# Altium schematic symbol library Common.SchLib: 89 symbols
Pins are listed as number, name and electrical type; pins without a type are passive.

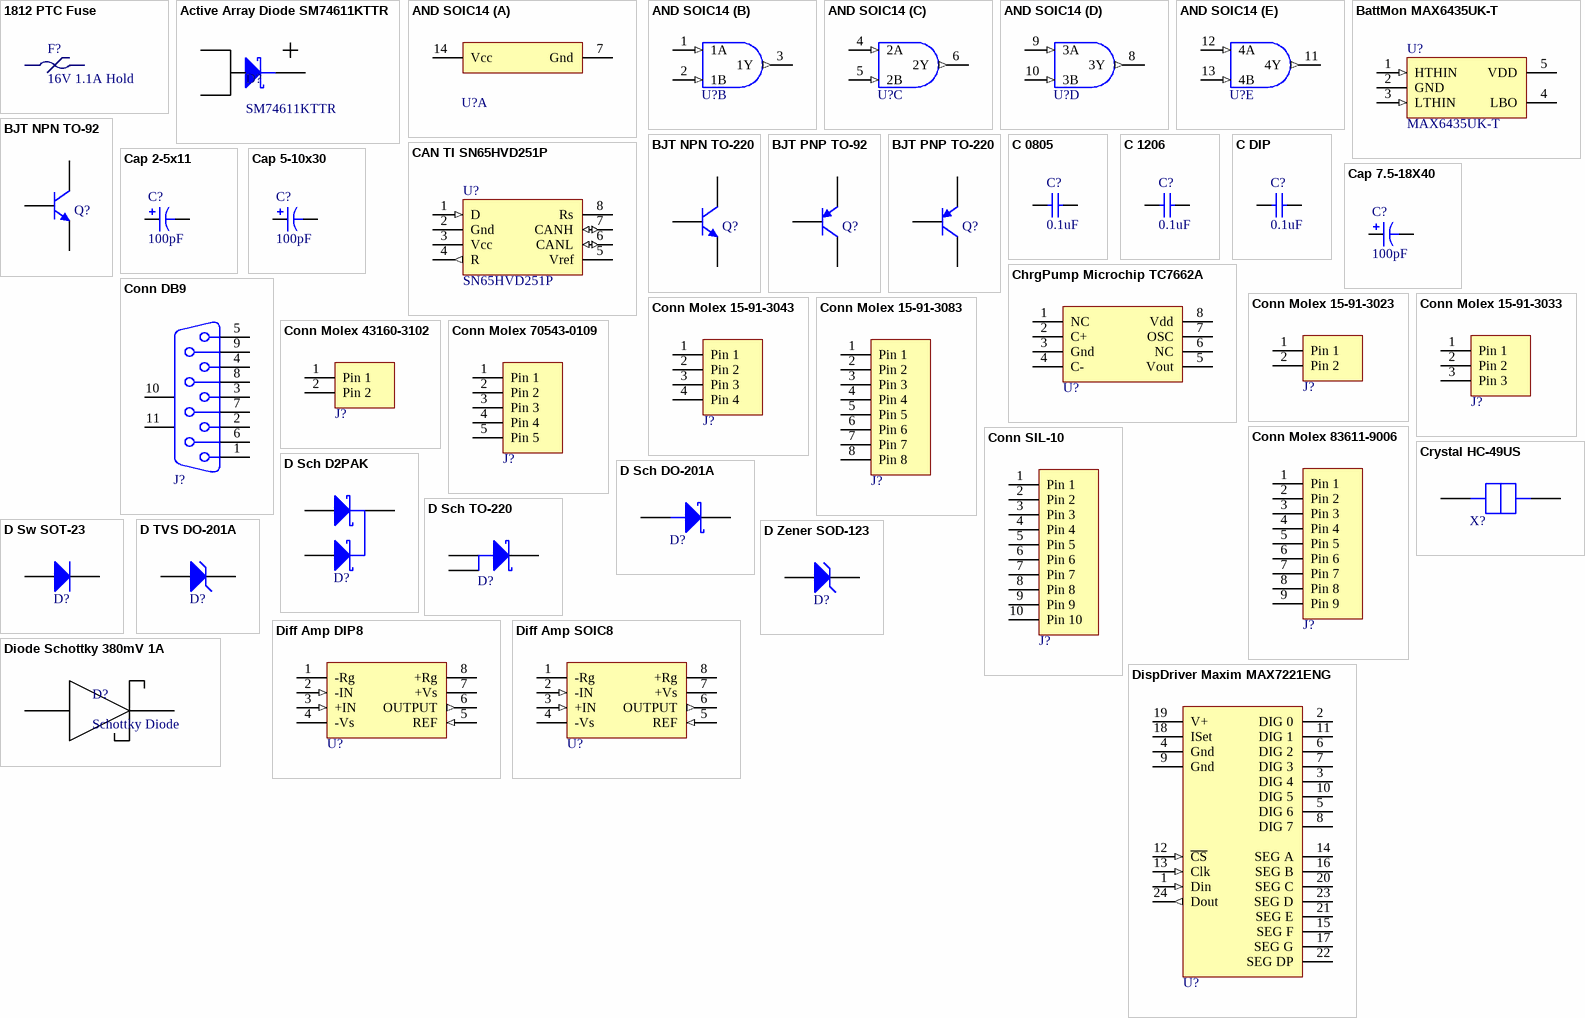
[diagram p0: symbols 1812 PTC Fuse to DispDriver Maxim MAX7221ENG]

## 1812 PTC Fuse
designator F?, comment 16V 1.1A Hold
1.1A Bel Fuse PTC Resettable; 0ZCC Series Fuse: 0ZCC0110AF2C; Characteristics: Hold: 1.1A Trip: 1.95; Source: http://www.digikey.com/product-detail/en/0ZCC0110AF2C/507-1500-2-ND/2165283
footprint 1812 PTC Fuse (1812 1.1A Hold, 1.95A Trip Bel Fuse)
pins: 1, 2

## Active Array Diode SM74611KTTR
designator D?, comment SM74611KTTR
Digikey: http://www.digikey.com/product-detail/en/SM74611KTTR/296-35688-1-ND/3911155; Datasheet: http://www.mouser.com/ds/2/405/sm74611-557060.pdf
footprint D2PAK
pins: 1 A1, 2 K, 3 A2

## AND SOIC14
designator U?  (value not drawn)
AND, Gen, Quad, SOIC14
footprint SO-G14
part A pins: 7 Gnd (power), 14 Vcc (power)
part B pins: 1 1A (in), 2 1B (in), 3 1Y (out)
part C pins: 4 2A (in), 5 2B (in), 6 2Y (out)
part D pins: 8 3Y (out), 9 3A (in), 10 3B (in)
part E pins: 11 4Y (out), 12 4A (in), 13 4B (in)

## BattMon MAX6435UK-T
designator U?, comment MAX6435UK-T
BattMon, Maxim, MAX6435UK-T
footprint SOT-23-5
pins: 1 HTHIN (in), 2 GND (power), 3 LTHIN (in), 4 LBO (oc), 5 VDD (power)

## BJT NPN TO-92
designator Q?
BJT, Gen, NPN, TO-92; Published: 8-Jun-2000; LatestRevisionDate: 17-Jul-2002; LatestRevisionNote: Re-released for DXP Platform.; Publisher: Altium Limited; Code_JEDEC: TO-226-AA
footprint TO-92
pins: 1 E, 2 B, 3 C

## BJT NPN TO-220
designator Q?
BJT, Gen, NPN, TO-220; Published: 8-Jun-2000; LatestRevisionDate: 17-Jul-2002; LatestRevisionNote: Re-released for DXP Platform.; Publisher: Altium Limited; Code_JEDEC: TO-226-AA
footprint TO-220
pins: 1 B, 2 C, 3 E

## BJT PNP TO-92
designator Q?
BJT, Gen, PNP, TO-92; Published: 8-Jun-2000; LatestRevisionDate: 17-Jul-2002; LatestRevisionNote: Re-released for DXP Platform.; Publisher: Altium Limited; Code_JEDEC: SOT-23
footprint TO-92
pins: 1 E, 2 B, 3 C

## BJT PNP TO-220
designator Q?
BJT, Gen, PNP, TO-220; Published: 8-Jun-2000; LatestRevisionDate: 17-Jul-2002; LatestRevisionNote: Re-released for DXP Platform.; Publisher: Altium Limited; Code_JEDEC: SOT-23
footprint TO-220
pins: 1 E, 2 B, 3 C

## C 0805
designator C?  value 0.1uF
C, Gen, 0805; Published: 8-Jun-2000; LatestRevisionDate: 17-Jul-2002; LatestRevisionNote: Re-released for DXP Platform.; Publisher: Altium Limited
simulation model CAP (Capacitor)
footprint CR2012-0805
pins: 1, 2

## C 1206
designator C?  value 0.1uF
C, Gen, 1206; Published: 8-Jun-2000; LatestRevisionDate: 17-Jul-2002; LatestRevisionNote: Re-released for DXP Platform.; Publisher: Altium Limited
simulation model CAP (Capacitor)
footprint CR3216-1206
pins: 1, 2

## C DIP
designator C?  value 0.1uF
C, Gen, DIP; Published: 8-Jun-2000; LatestRevisionDate: 17-Jul-2002; LatestRevisionNote: Re-released for DXP Platform.; Publisher: Altium Limited
simulation model CAP (Capacitor)
footprint CAPR2.54-5.1X2.5
pins: 1, 2

## CAN TI SN65HVD251P
designator U?, comment SN65HVD251P
CAN, TI, SN65HVD251, DIP8
footprint DIP-8
pins: 1 D (in), 2 Gnd (power), 3 Vcc (power), 4 R (out), 5 Vref (power), 6 CANL (io), 7 CANH (io), 8 Rs

## Cap 2-5x11
designator C?  value 100pF
Cap, Gen, 2-5x11; Published: 8-Jun-2000; LatestRevisionDate: 17-Jul-2002; LatestRevisionNote: Re-released for DXP Platform.; Publisher: Altium Limited
simulation model CAP (Capacitor)
footprint CAPPR2-5X11
pins: 1, 2
1 alternate drawing of the same symbol

## Cap 5-10x30
designator C?  value 100pF
Cap, Gen, 5-10x30; Published: 8-Jun-2000; LatestRevisionDate: 17-Jul-2002; LatestRevisionNote: Re-released for DXP Platform.; Publisher: Altium Limited
simulation model CAP (Capacitor)
footprint CAPPR5-10X30
pins: 1, 2
1 alternate drawing of the same symbol

## Cap 7.5-18X40
designator C?  value 100pF
Cap, Gen, 7.5-18X40; Published: 8-Jun-2000; LatestRevisionDate: 17-Jul-2002; LatestRevisionNote: Re-released for DXP Platform.; Publisher: Altium Limited
simulation model CAP (Capacitor)
footprint CAPPR7.5-18X40
pins: 1, 2
1 alternate drawing of the same symbol

## ChrgPump Microchip TC7662A
designator U?
Charge Pump, Microchip, TC7662A, SOIC8
footprint SO-G8
pins: 1 NC, 2 C+, 3 Gnd (power), 4 C-, 5 Vout (power), 6 NC, 7 OSC, 8 Vdd (power)

## Conn DB9
designator J?  (value not drawn)
Conn, Gen, DB9, 9 Circuit, Thru-hole
footprint DSUB1.385-2H9
pins: 1, 2, 3, 4, 5, 6, 7, 8, 9, 10 MH1, 11 MH2

## Conn Molex 15-91-3023
designator J?  (value not drawn)
Conn, Molex 15-91-3023, 2 Circuit, SMD
footprint 15-91-3023
pins: 1 Pin 1, 2 Pin 2

## Conn Molex 15-91-3033
designator J?  (value not drawn)
Conn, Molex 15-91-3033, 3 Circuit, SMD
footprint 15-91-3033
pins: 1 Pin 1, 2 Pin 2, 3 Pin 3

## Conn Molex 15-91-3043
designator J?  (value not drawn)
Conn, Molex 15-91-3043, 4 Circuit, SMD
footprint 15-91-3043
pins: 1 Pin 1, 2 Pin 2, 3 Pin 3, 4 Pin 4

## Conn Molex 15-91-3083
designator J?  (value not drawn)
Conn, Molex 15-91-3083, 8 Circuit, SMD
footprint 15-91-3083
pins: 1 Pin 1, 2 Pin 2, 3 Pin 3, 4 Pin 4, 5 Pin 5, 6 Pin 6, 7 Pin 7, 8 Pin 8

## Conn Molex 43160-3102
designator J?  (value not drawn)
Conn, Molex, 43160-3102, 2 Circuit, Thru Hole
footprint 43160-3102
pins: 1 Pin 1 (power), 2 Pin 2 (power)

## Conn Molex 70543-0109
designator J?  (value not drawn)
Conn, Molex, 70543-0109, 5 Circuit, Thru Hole
footprint 70543-0109
pins: 1 Pin 1, 2 Pin 2, 3 Pin 3, 4 Pin 4, 5 Pin 5

## Conn Molex 83611-9006
designator J?  (value not drawn)
Conn, Molex 83611-9006, 9 Circuit, Comm Micro D-Sub
footprint 83611-9006 (Molex Commercial D-Sub 9 Pin)
pins: 1 Pin 1, 2 Pin 2, 3 Pin 3, 4 Pin 4, 5 Pin 5, 6 Pin 6, 7 Pin 7, 8 Pin 8, 9 Pin 9

## Conn SIL-10
designator J?  (value not drawn)
Conn, Gen, SIL-10, 10 Circuit, Thru-Hole
footprint SIL-10
pins: 1 Pin 1, 2 Pin 2, 3 Pin 3, 4 Pin 4, 5 Pin 5, 6 Pin 6, 7 Pin 7, 8 Pin 8, 9 Pin 9, 10 Pin 10

## Crystal HC-49US
designator X?  (value not drawn)
Crystal, Gen, HC-49US
footprint HC-49US
pins: 1, 2

## D Sch D2PAK
designator D?
D, Gen, Schottky, D2PAK; Note: Terminal 2 is the TAB and is electrically connected to the cathode; Published: 8-Jun-2000; LatestRevisionDate: 17-Jul-2002; LatestRevisionNote: Re-released for DXP Platform.; DatasheetDocument: PD-2.057B; PackageDocument: Feb-1998; PackageReference: TO-220AC; Publisher: Altium Limited
footprint D2PAK
pins: 1 A1, 2 K, 3 A2

## D Sch DO-201A
designator D?
D, Gen, Schottky, DO-201A; Note: Terminal 2 is the TAB and is electrically connected to the cathode; Published: 8-Jun-2000; LatestRevisionDate: 17-Jul-2002; LatestRevisionNote: Re-released for DXP Platform.; DatasheetDocument: PD-2.057B; PackageDocument: Feb-1998; PackageReference: TO-220AC; Publisher: Altium Limited
footprint DIO14.5-9.5x5.3
pins: 1 A, 2 K

## D Sch TO-220
designator D?
D, Gen, Schottky, TO-220; Note: Terminal 2 is the TAB and is electrically connected to the cathode; Published: 8-Jun-2000; LatestRevisionDate: 17-Jul-2002; LatestRevisionNote: Re-released for DXP Platform.; DatasheetDocument: PD-2.057B; PackageDocument: Feb-1998; PackageReference: TO-220AC; Publisher: Altium Limited
footprint TO-220
pins: 1 A1, 2 K, 3 A2

## D Sw SOT-23
designator D?
D, Gen, Switching, SOT-23; Note: Pin 2 is not connected and not drawn.; Published: 21-Mar-2003; DatasheetDocument: Oct-1999; PackageDocument: Sep-2001; PackageReference: SOT-23; Publisher: Altium Limited
footprint SOT-23
pins: 1 A, 3 K

## D TVS DO-201A
designator D?
D, Gen, TVS, DO-201A; Published: 8-Jun-2000; LatestRevisionDate: 17-Jul-2002; LatestRevisionNote: Re-released for DXP Platform.; Publisher: Altium Limited
footprint DIO14.5-9.5x5.3
pins: 1 A, 2 K

## D Zener SOD-123
designator D?
D, Gen, Zener, SOD-123; Published: 8-Jun-2000; LatestRevisionDate: 17-Jul-2002; LatestRevisionNote: Re-released for DXP Platform.; Publisher: Altium Limited
footprint SOD123
pins: 1 A, 2 K

## Diff Amp DIP8
designator U?
Diff Amp, Gen, Single, DIP8
footprint DIP-8
pins: 1 -Rg, 2 -IN (in), 3 +IN (in), 4 -Vs (power), 5 REF (in), 6 OUTPUT (out), 7 +Vs (power), 8 +Rg

## Diff Amp SOIC8
designator U?
Diff Amp, Gen, Single, SOIC8
footprint SO-G8
pins: 1 -Rg, 2 -IN (in), 3 +IN (in), 4 -Vs (power), 5 REF (in), 6 OUTPUT (out), 7 +Vs (power), 8 +Rg

## Diode Schottky 380mV 1A
designator D?, comment Schottky Diode
Supplier 1: Digi-Key; Supplier Part Number 1: MBR130LSFT1GOSTR-ND
footprint SOD-123F
pins: 1, 2

## DispDriver Maxim MAX7221ENG
designator U?  (value not drawn)
DispDriver, Maxim, MAX7221, DIP24
footprint DIP-24
pins: 1 Din (in), 2 DIG 0 (power), 3 DIG 4 (power), 4 Gnd (power), 5 DIG 6 (power), 6 DIG 2 (power), 7 DIG 3 (power), 8 DIG 7 (power), 9 Gnd (oe), 10 DIG 5 (power), 11 DIG 1 (power), 12 ~{CS} (in), 13 Clk (in), 14 SEG A (power), 15 SEG F (power), 16 SEG B (power), 17 SEG G (power), 18 ISet, 19 V+ (power), 20 SEG C (power), 21 SEG E (power), 22 SEG DP (power), 23 SEG D (power), 24 Dout (out)

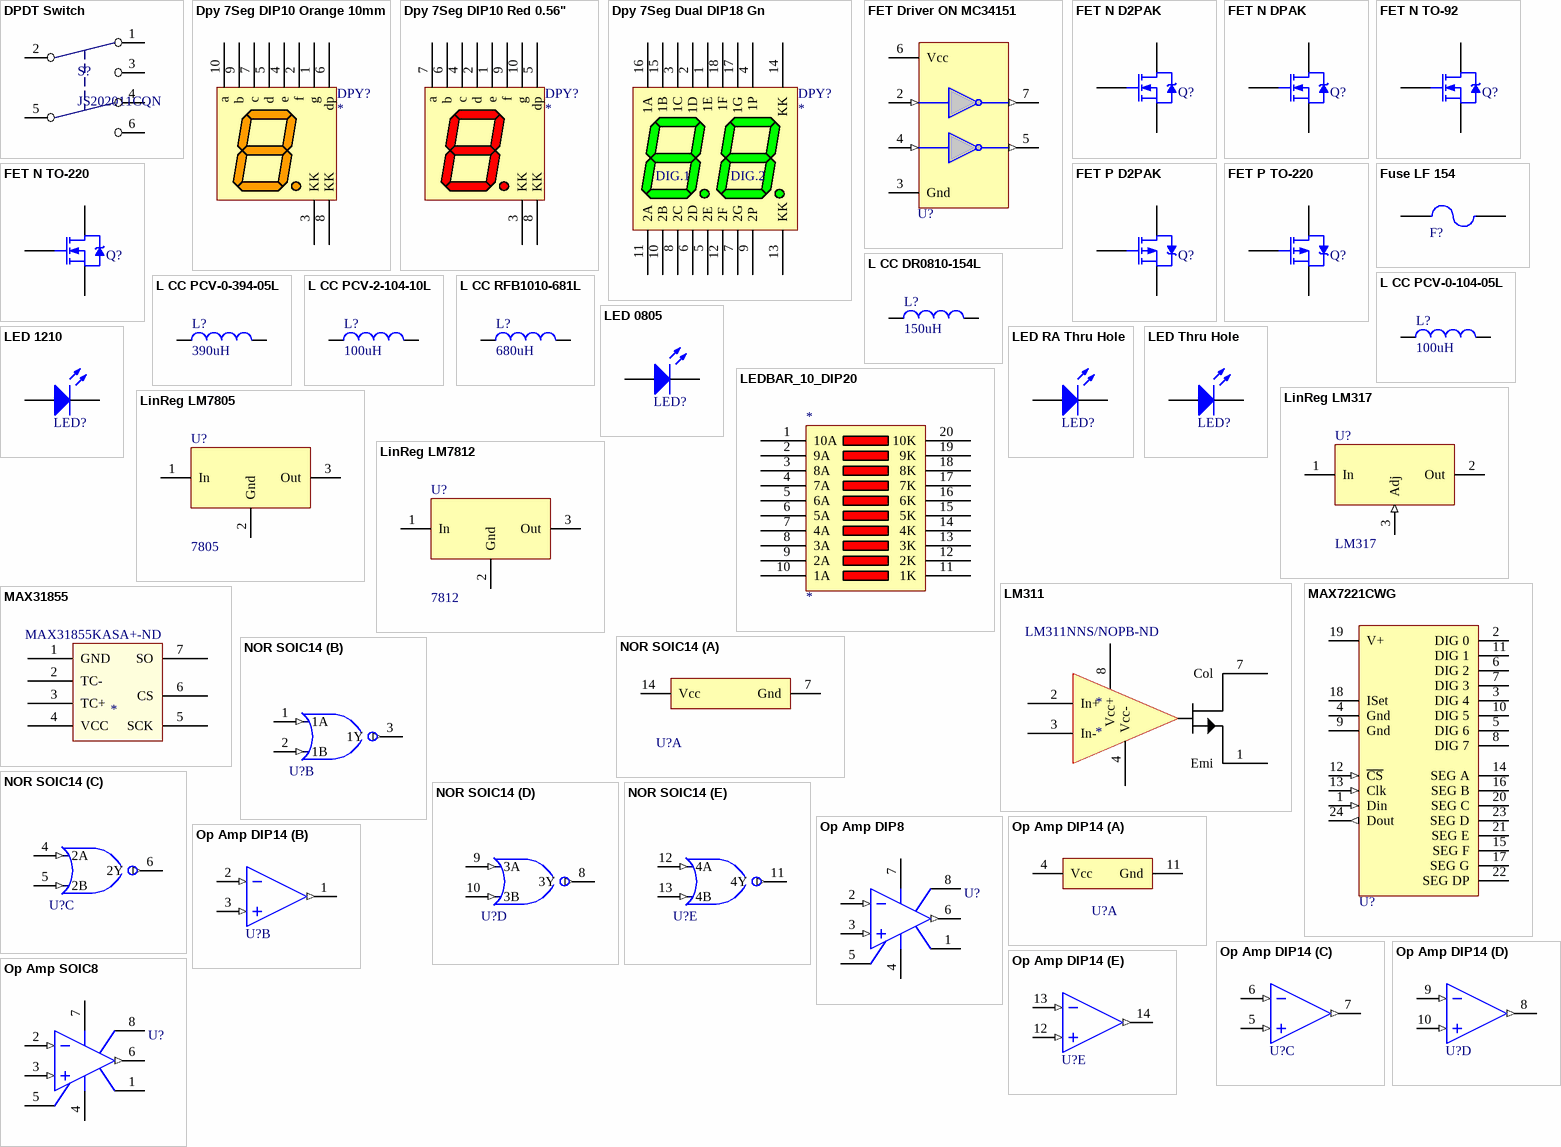
[diagram p1: symbols DPDT Switch to Op Amp SOIC8]

## DPDT Switch
designator S?, comment JS202011CQN
DPDT Slide Switch 6VDC 0.3A; Manufacturer: C&K Components; Switch Function: On-On; Contact Rating @ Voltage: 0.3A @ 6VDC; Actuator Type: Standard; Supplier 1: Digi-Key; Manufacturer Part Number: JS202011CQN; RoHS: RoHS Compliant; Category: Switches; Stock 1: 4366; Pricing 1: 1=0.39, 10=0.377, 50=0.3298, 100=0.314, 250=0.30616, 500=0.25906, 1000=0.2512, 5000=0.2198 (USD); Circuit: DPDT; Mounting Type: Through Hole; Orientation: Vertical; Termination Style: PC Pin; ComponentLink1URL: http://www.ck-components.com/index.php?module=media&action=Display&cmpref=14398&lang=en&width=&height=&format=&alt=; ComponentLink1Description: http://www.ck-components.com/index.php?module=media&action=Display&cmpref=14398&lang=en&width=&height=&format=&alt=; Supplier Part Number 1: 401-2001-ND
footprint JS202011CQN (DPDT Slide Switch 6VDC 0.3A)
pins: 1 30, 2 29, 3 28, 4 27, 5 32, 6 31

## Dpy 7Seg DIP10 Orange 10mm
designator DPY?
7-segment LED display, DIP10, orange, 10mm digit height (LTS-4103J*)
footprint LEDDIP-10/C5.08 - LTS-4301J*
pins: 1 g, 2 f, 3 KK, 4 e, 5 d, 6 dp, 7 c, 8 KK, 9 b, 10 a

## Dpy 7Seg DIP10 Red 0.56"
designator DPY?
7-segment LED display, DIP10, red, 0.56" digit height (LSHD-5503)
footprint LEDDIP-10/C15.24 - LSHD-5503
pins: 1 e, 2 d, 3 KK, 4 c, 5 dp, 6 b, 7 a, 8 KK, 9 f, 10 g

## Dpy 7Seg Dual DIP18 Gn
designator DPY?
7-segment dual LED display, DIP18, 22mm pitch, green (LDD-C812RI)
footprint LEDDIP-18 - LDD-C812RI
pins: 1 1E, 2 1D, 3 1C, 4 1P, 5 2E, 6 2D, 7 2G, 8 2C, 9 2P, 10 2B, 11 2A, 12 2F, 13 KK, 14 KK, 15 1B, 16 1A, 17 1G, 18 1F
text: DIG.1; DIG.2

## FET Driver ON MC34151
designator U?
FET Driver, ON Semi, MC34151, SOIC8
footprint SO-G8
pins: 2 A1 (in), 3 Gnd (power), 4 A2 (in), 5 B2 (out), 6 Vcc (power), 7 B1 (out)

## FET N D2PAK
designator Q?
FET, Gen, N-Channel, D2PAK; Note: Pin 2 is electrically connected to pin 4.; Published: 8-Jun-2000; LatestRevisionDate: 17-Jul-2002; LatestRevisionNote: Re-released for DXP Platform.; DatasheetDocument: PD-9.814; PackageReference: TO-220AB; Publisher: Altium Limited; Code_JEDEC: TO-220-AB
footprint D2PAK
pins: 1 G, 2 D, 3 S

## FET N DPAK
designator Q?
MTD6N20E N-channel FET, 6A; Note: Pin 2 is electrically connected to pin 4.; Published: 8-Jun-2000; LatestRevisionDate: 17-Jul-2002; LatestRevisionNote: Re-released for DXP Platform.; DatasheetDocument: PD-9.814; PackageReference: TO-220AB; Publisher: Altium Limited; Code_JEDEC: TO-220-AB
footprint DPAK-369C-01 (For MTD6N20E N-Channel FET)
pins: 1 G, 2 D, 3 S

## FET N TO-92
designator Q?
FET, Gen, N-Channel, TO-92; Note: Pin 2 is electrically connected to pin 4.; Published: 8-Jun-2000; LatestRevisionDate: 17-Jul-2002; LatestRevisionNote: Re-released for DXP Platform.; DatasheetDocument: PD-9.814; PackageReference: TO-220AB; Publisher: Altium Limited; Code_JEDEC: TO-220-AB
footprint TO-92
pins: 1 D, 2 G, 3 S

## FET N TO-220
designator Q?
FET, Gen, N-Channel, TO-220; Note: Pin 2 is electrically connected to pin 4.; Published: 8-Jun-2000; LatestRevisionDate: 17-Jul-2002; LatestRevisionNote: Re-released for DXP Platform.; DatasheetDocument: PD-9.814; PackageReference: TO-220AB; Publisher: Altium Limited; Code_JEDEC: TO-220-AB
footprint TO-220
pins: 1 G, 2 D, 3 S

## FET P D2PAK
designator Q?
FET, Gen, P-Channel, D2PAK; Note: Pin 4 not drawn and electrically connected to Pin 2.; Published: 8-Jun-2000; LatestRevisionDate: 17-Jul-2002; LatestRevisionNote: Re-released for DXP Platform.; DatasheetDocument: PD-9.390D; PackageReference: TO-220AB; Publisher: Altium Limited; Code_JEDEC: TO-220-AB
footprint D2PAK
pins: 1 G, 2 D, 3 S

## FET P TO-220
designator Q?
FET, Gen, P-Channel, TO-220; Note: Pin 4 not drawn and electrically connected to Pin 2.; Published: 8-Jun-2000; LatestRevisionDate: 17-Jul-2002; LatestRevisionNote: Re-released for DXP Platform.; DatasheetDocument: PD-9.390D; PackageReference: TO-220AB; Publisher: Altium Limited; Code_JEDEC: TO-220-AB
footprint TO-220
pins: 1 G, 2 D, 3 S

## Fuse LF 154
designator F?
Fuse, Littelfuse, 154 Series; Published: 8-Jun-2000; LatestRevisionDate: 17-Jul-2002; LatestRevisionNote: Re-released for DXP Platform.; Publisher: Altium Limited
footprint LITTELFUSE OMNIBLOCK
pins: 1, 2

## L CC DR0810-154L
designator L?  value 150uH
L, Coilcraft, DR0810-154L, 150uH, 1.1A; Code_IEC: 1005; Published: 8-Jun-2000; LatestRevisionDate: 17-Jul-2002; LatestRevisionNote: Re-released for DXP Platform.; PackageReference: 0402-A; Publisher: Altium Limited; Code_JEITA: 0402
simulation model INDUCTOR (Inductor)
footprint INDR5-10.5x12
pins: 1, 2

## L CC PCV-0-104-05L
designator L?  value 100uH
L, Coilcraft, PCV-0-104-05L, 100uH, 5A; Code_IEC: 1005; Published: 8-Jun-2000; LatestRevisionDate: 17-Jul-2002; LatestRevisionNote: Re-released for DXP Platform.; PackageReference: 0402-A; Publisher: Altium Limited; Code_JEITA: 0402
simulation model INDUCTOR (Inductor)
footprint INDR17.8-16.5x33
pins: 1, 2

## L CC PCV-0-394-05L
designator L?  value 390uH
L, Coilcraft, PCV-0-394-05L, 390uH, 5A; Code_IEC: 1005; Published: 8-Jun-2000; LatestRevisionDate: 17-Jul-2002; LatestRevisionNote: Re-released for DXP Platform.; PackageReference: 0402-A; Publisher: Altium Limited; Code_JEITA: 0402
simulation model INDUCTOR (Inductor)
footprint INDR18.3-28x25.4
pins: 1, 2

## L CC PCV-2-104-10L
designator L?  value 100uH
L, Coilcraft, PCV-2-104-10L, 100uH, 10.1A; Code_IEC: 1005; Published: 8-Jun-2000; LatestRevisionDate: 17-Jul-2002; LatestRevisionNote: Re-released for DXP Platform.; PackageReference: 0402-A; Publisher: Altium Limited; Code_JEITA: 0402
simulation model INDUCTOR (Inductor)
footprint INDR22.35-26.67X27.94
pins: 1, 2

## L CC RFB1010-681L
designator L?  value 680uH
L, Coilcraft, RFB1010-681L, 680uH, 0.75A; Code_IEC: 1005; Published: 8-Jun-2000; LatestRevisionDate: 17-Jul-2002; LatestRevisionNote: Re-released for DXP Platform.; PackageReference: 0402-A; Publisher: Altium Limited; Code_JEITA: 0402
simulation model INDUCTOR (Inductor)
footprint INDR6-11x11.5
pins: 1, 2

## LED 0805
designator LED?  (value not drawn)
LED, Surface mount, 0805
footprint CC2012-0805
pins: A, K

## LED 1210
designator LED?  (value not drawn)
LED, Surface mount, 1210
footprint CC2012-1210
pins: A, K

## LED RA Thru Hole
designator LED?  (value not drawn)
LED, Gen, RA, Thru Hole
footprint LEDRA2.54-14x6
pins: 1 A, 2 K

## LED Thru Hole
designator LED?  (value not drawn)
LED, Thru Hole, Upright Mount
footprint LED_UP_T1.75 (LED - T 1-3/4 (5mm) - Upright Mount)
footprint LED_UP_T1 (LED, Upright Mount, T1 (3mm))
pins: 1 A, 2 K

## LEDBAR_10_DIP20
designator *
footprint LEDDIP20 (DIP-20 with silkscreen for DIP20-based bargraph LED)
pins: 1 10A, 2 9A, 3 8A, 4 7A, 5 6A, 6 5A, 7 4A, 8 3A, 9 2A, 10 1A, 11 1K, 12 2K, 13 3K, 14 4K, 15 5K, 16 6K, 17 7K, 18 8K, 19 9K, 20 10K

## LinReg LM317
designator U?, comment LM317
LinReg, LM317, TO-220
footprint TO-220
pins: 1 In (power), 2 Out (power), 3 Adj (in)

## LinReg LM7805
designator U?, comment 7805
LinReg, LM7805, TO-220
footprint TO-220
pins: 1 In (power), 2 Gnd (power), 3 Out (power)

## LinReg LM7812
designator U?, comment 7812
LinReg, LM7812, TO-220
footprint TO-220
pins: 1 In (power), 2 Gnd (power), 3 Out (power)

## LM311
designator *  Supplier Part Number 1: LM311NNS/NOPB-ND
Supplier 1: Digi-Key
footprint DIP-8
pins: 1 Emi, 2 In+, 3 In-, 4 Vcc-, 7 Col, 8 Vcc+

## MAX7221CWG
designator U?  (value not drawn)
DispDriver, Maxim, MAX7221, WSOIC24
footprint SO-G24/D15.6
pins: 1 Din (in), 2 DIG 0 (power), 3 DIG 4 (power), 4 Gnd (power), 5 DIG 6 (power), 6 DIG 2 (power), 7 DIG 3 (power), 8 DIG 7 (power), 9 Gnd (oe), 10 DIG 5 (power), 11 DIG 1 (power), 12 ~{CS} (in), 13 Clk (in), 14 SEG A (power), 15 SEG F (power), 16 SEG B (power), 17 SEG G (power), 18 ISet, 19 V+ (power), 20 SEG C (power), 21 SEG E (power), 22 SEG DP (power), 23 SEG D (power), 24 Dout (out)

## MAX31855
designator ?  Supplier Part Number 1: MAX31855KASA+-ND
Thermocouple Reader, SPI; Supplier 1: Digi-Key
footprint SO-G8
pins: 1 GND, 2 TC-, 3 TC+, 4 VCC, 5 SCK, 6 CS, 7 SO

## NOR SOIC14
designator U?  (value not drawn)
NOR, Gen, Quad, SOIC14
footprint SO-G14
part A pins: 7 Gnd (power), 14 Vcc (power)
part B pins: 1 1A (in), 2 1B (in), 3 1Y (out)
part C pins: 4 2A (in), 5 2B (in), 6 2Y (out)
part D pins: 8 3Y (out), 9 3A (in), 10 3B (in)
part E pins: 11 4Y (out), 12 4A (in), 13 4B (in)

## Op Amp DIP8
designator U?
Op Amp, Gen, Single, DIP8
footprint DIP-8
pins: 1 OS NUL, 2 IN- (in), 3 IN+ (in), 4 V- (power), 5 OS NUL, 6 OUT (out), 7 V+ (power), 8 TAB

## Op Amp DIP14
designator U?
Op Amp, Gen, Quad, DIP14
footprint DIP-14
part A pins: 4 Vcc (power), 11 Gnd (power)
part B pins: 1 OUTA (out), 2 INA- (in), 3 INA+ (in)
part C pins: 5 INB+ (in), 6 INB- (in), 7 OUTB (out)
part D pins: 8 OUTC (out), 9 INC- (in), 10 INC+ (in)
part E pins: 12 IND+ (in), 13 IND- (in), 14 OUTD (out)

## Op Amp SOIC8
designator U?
Op Amp, Gen, Single, SOIC8
footprint SO-G8
pins: 1 OS NUL, 2 IN- (in), 3 IN+ (in), 4 V- (power), 5 OS NUL, 6 OUT (out), 7 V+ (power), 8 TAB

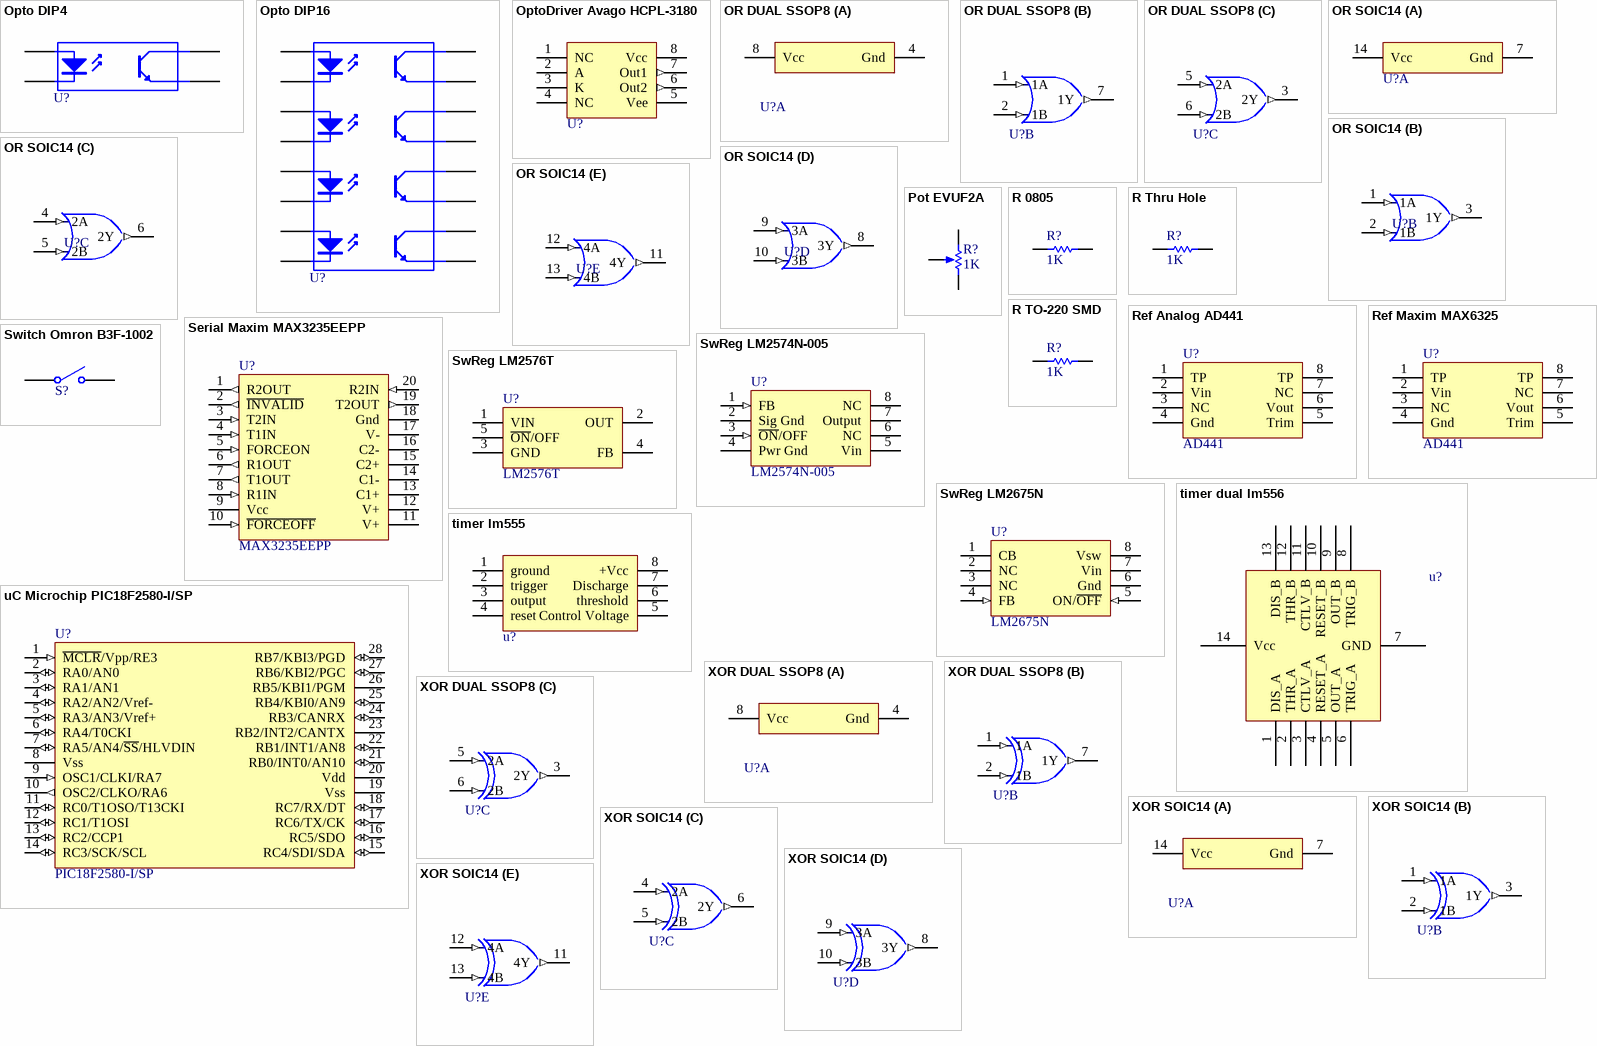
[diagram p2: symbols Opto DIP4 to XOR SOIC14]

## Opto DIP4
designator U?
Opto, Gen, Single, DIP4
footprint DIP-4
pins: 1 A, 2 K, 3 E, 4 C

## Opto DIP16
designator U?
Opto, Gen, Quad, DIP16
footprint DIP-16
pins: 1 A1, 2 K1, 3 A2, 4 K2, 5 A3, 6 K3, 7 A4, 8 K4, 9 E4, 10 C4, 11 E3, 12 C3, 13 E2, 14 C2, 15 E1, 16 C1

## OptoDriver Avago HCPL-3180
designator U?
Opto Driver, Avago, HCPL-3180, GW8
footprint GW8
pins: 1 NC, 2 A (power), 3 K (power), 4 NC, 5 Vee (power), 6 Out2 (out), 7 Out1 (out), 8 Vcc (power)

## OR DUAL SSOP8
designator U?  (value not drawn)
OR, Dual, SSOP8 (TI SN74LVC2G32DCTR)
footprint SSO-G8/D3 (MOD)
part A pins: 4 Gnd (power), 8 Vcc (power)
part B pins: 1 1A (in), 2 1B (in), 7 1Y (out)
part C pins: 3 2Y (out), 5 2A (in), 6 2B (in)

## OR SOIC14
designator U?  (value not drawn)
OR, Gen, Quad, SOIC14
footprint SO-G14
part A pins: 7 Gnd (power), 14 Vcc (power)
part B pins: 1 1A (in), 2 1B (in), 3 1Y (out)
part C pins: 4 2A (in), 5 2B (in), 6 2Y (out)
part D pins: 8 3Y (out), 9 3A (in), 10 3B (in)
part E pins: 11 4Y (out), 12 4A (in), 13 4B (in)

## Pot EVUF2A
designator R?  value 1K
Pot, Panasonic, EVUF2A; Set Position: 0.5; Published: 8-Jun-2000; Revision: July-2002: Re-released for DXP Platform.; Publisher: Altium Limited
footprint EVUF2A
pins: 1 TOP, 2 TAP, 3 BOT

## R 0805
designator R?  value 1K
R, Gen, 0805; Published: 8-Jun-2000; LatestRevisionDate: 17-Jul-2002; LatestRevisionNote: Re-released for DXP Platform.; Publisher: Altium Limited
simulation model RESISTOR (Resistor)
footprint CR2012-0805
pins: 1, 2

## R Thru Hole
designator R?  value 1K
R, Gen, Thru Hole; Published: 8-Jun-2000; LatestRevisionDate: 17-Jul-2002; LatestRevisionNote: Re-released for DXP Platform.; Publisher: Altium Limited
simulation model RESISTOR (Resistor)
footprint RES10.55-7X2.8
pins: 1, 2

## R TO-220 SMD
designator R?  value 1K
R, Gen, TO-220 SMD; Published: 8-Jun-2000; LatestRevisionDate: 17-Jul-2002; LatestRevisionNote: Re-released for DXP Platform.; Publisher: Altium Limited
simulation model RESISTOR (Resistor)
footprint TO-220 SMD
pins: 1, 2

## Ref Analog AD441
designator U?, comment AD441
Ref, Analog, AD441, 2.5V, DIP8
footprint DIP-8
pins: 1 TP, 2 Vin (power), 3 NC, 4 Gnd (power), 5 Trim, 6 Vout (power), 7 NC, 8 TP

## Ref Maxim MAX6325
designator U?, comment AD441
Ref, Maxim, MAX6325, 2.5V, SOIC8
footprint SO-G8
pins: 1 TP, 2 Vin (power), 3 NC, 4 Gnd (power), 5 Trim, 6 Vout (power), 7 NC, 8 TP

## Serial Maxim MAX3235EEPP
designator U?, comment MAX3235EEPP
Serial, Maxim, MAX3235, DIP20
footprint DIP-20
pins: 1 R2OUT (out), 2 ~{INVALID} (out), 3 T2IN (in), 4 T1IN (in), 5 FORCEON (in), 6 R1OUT (out), 7 T1OUT (out), 8 R1IN (in), 9 Vcc (power), 10 ~{FORCEOFF} (in), 11 V+, 12 V+, 13 C1+, 14 C1-, 15 C2+, 16 C2-, 17 V-, 18 Gnd (power), 19 T2OUT (out), 20 R2IN (in)

## Switch Omron B3F-1002
designator S?
Switch, Omron, B3F-1002, SPST, Momentary, Thru Hole; Published: 24-Mar-1999; Revision: July-2002: Re-released for DXP Platform.; Publisher: Altium Limited
footprint B3F-1000
pins: 1 COMMON, 2 NO

## SwReg LM2574N-005
designator U?, comment LM2574N-005
SwReg, LM2574, 40V In, 5V Out, 0.5A
footprint DIP-8
pins: 1 FB (in), 2 Sig Gnd (power), 3 ~{ON}/OFF (in), 4 Pwr Gnd (power), 5 Vin (power), 6 NC, 7 Output (power), 8 NC

## SwReg LM2576T
designator U?, comment LM2576T
SwReg, LM2576T, 40V In, 12V Out, 3A
footprint TO-220-5
pins: 1 VIN (power), 2 OUT (power), 3 GND (power), 4 FB, 5 ~{ON}/OFF

## SwReg LM2675N
designator U?, comment LM2675N
SwReg, LM2675, 40V In, 5V Out, 1A, DIP8
footprint DIP-8
pins: 1 CB (power), 2 NC, 3 NC, 4 FB (in), 5 ON/~{OFF} (in), 6 Gnd (power), 7 Vin (power), 8 Vsw (power)

## timer dual lm556
designator u?  (value not drawn)
lm556 dual timer soic14
footprint SO-G14
pins: 1 DIS_A, 2 THR_A, 3 CTLV_A, 4 RESET_A, 5 OUT_A, 6 TRIG_A, 7 GND, 8 TRIG_B, 9 OUT_B, 10 RESET_B, 11 CTLV_B, 12 THR_B, 13 DIS_B, 14 Vcc

## timer lm555
designator u?  (value not drawn)
lm555 timer dip8
footprint DIP-8
pins: 1 ground, 2 trigger, 3 output, 4 reset, 5 Control Voltage, 6 threshold, 7 Discharge, 8 +Vcc

## uC Microchip PIC18F2580-I/SP
designator U?, comment PIC18F2580-I/SP
uC, Microchip, PIC18F2580, DIP28
footprint DIP-28
pins: 1 ~{MCLR}/Vpp/RE3 (in), 2 RA0/AN0 (io), 3 RA1/AN1 (io), 4 RA2/AN2/Vref- (io), 5 RA3/AN3/Vref+ (io), 6 RA4/T0CKI (io), 7 RA5/AN4/~{SS}/HLVDIN (io), 8 Vss (power), 9 OSC1/CLKI/RA7 (in), 10 OSC2/CLKO/RA6 (out), 11 RC0/T1OSO/T13CKI (io), 12 RC1/T1OSI (io), 13 RC2/CCP1 (io), 14 RC3/SCK/SCL (io), 15 RC4/SDI/SDA (io), 16 RC5/SDO (io), 17 RC6/TX/CK (io), 18 RC7/RX/DT (io), 19 Vss (power), 20 Vdd (power), 21 RB0/INT0/AN10 (io), 22 RB1/INT1/AN8 (io), 23 RB2/INT2/CANTX, 24 RB3/CANRX (io), 25 RB4/KBI0/AN9 (io), 26 RB5/KBI1/PGM, 27 RB6/KBI2/PGC (io), 28 RB7/KBI3/PGD (io)

## XOR DUAL SSOP8
designator U?  (value not drawn)
XOR, Dual, SSOP8 (TI SN74LVC2G86DCTR)
footprint SSO-G8/D3 (MOD)
part A pins: 4 Gnd (power), 8 Vcc (power)
part B pins: 1 1A (in), 2 1B (in), 7 1Y (out)
part C pins: 3 2Y (out), 5 2A (in), 6 2B (in)

## XOR SOIC14
designator U?  (value not drawn)
XOR, Gen, Quad, SOIC14
footprint SO-G14
part A pins: 7 Gnd (power), 14 Vcc (power)
part B pins: 1 1A (in), 2 1B (in), 3 1Y (out)
part C pins: 4 2A (in), 5 2B (in), 6 2Y (out)
part D pins: 8 3Y (out), 9 3A (in), 10 3B (in)
part E pins: 11 4Y (out), 12 4A (in), 13 4B (in)